# Altium footprint library RM6.PcbLib: 1 footprints
Each footprint in its own frame and in the unit in brackets; x right, y up, seen from the top. Pads: shape width x height; smd on the part's side, far side on the other; paste and mask are expansions set on the pad; w line width, h text height; cw(c..) or ccw(c..) is an arc to the next point about the centre after c.
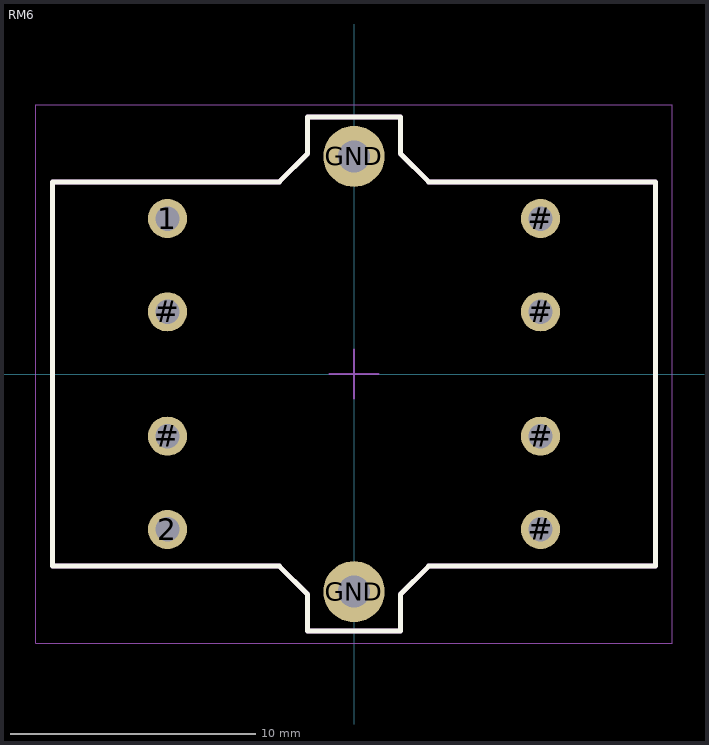
[diagram p0: the footprint, top view; thin cyan lines are the x and y axes]

## RM6 [mm] "Frame: B65808E1508T001, Core 2xRM6, 8pin"
height 12.5
pads (10):
  round 1.6 hole 1: 1(-7.62,6.35) 2(-7.62,-6.35) #(-7.62,-2.54) #(-7.62,2.54) #(7.62,-6.35) #(7.62,-2.54) #(7.62,2.54) #(7.62,6.35)
  round 2.5 hole 1.3: GND(0,-8.89) GND(0,8.89)
Top Overlay:
  lines w0.2: -12.32,-7.85 -3.05,-7.85 -1.9,-9 -1.9,-10.5 1.9,-10.5 1.9,-9 3.05,-7.85 12.32,-7.85 12.32,7.85 3.05,7.85 1.9,9 1.9,10.5 -1.9,10.5 -1.9,9 -3.05,7.85 -12.32,7.85 -12.32,-7.85
Comp Outl Top THT:
  lines w0.2: -12.32,-7.85 -3.05,-7.85 -1.9,-9 -1.9,-10.5 1.9,-10.5 1.9,-9 3.05,-7.85 12.32,-7.85 12.32,7.85 3.05,7.85 1.9,9 1.9,10.5 -1.9,10.5 -1.9,9 -3.05,7.85 -12.32,7.85 -12.32,-7.85
Desg Top THT:
  text ".Designator" at 0,2.5 h2
Value Top THT:
  text ".Comment" at -12.5,-2.5 h2
Courtyard Top:
  lines w0.05: -13,-11 13,-11 13,11 -13,11 -13,-11
  lines w0.1: -1,0 1,0 ; 0,-1 0,1
3D body "B65659F0001X023.step": height 12.55, standoff 3.75, extent -1.666,-1.666 1.666,1.666
3D body "B65808E1508T001.step": height 12.65, standoff -4.3, extent -12.32,-8.45 12.32,7.85
3D body "B65808B2203X000.step": height 12.1, standoff -3, extent -1.15,6.351 1.15,10.195
3D body "B65808B2203X000.step": height 12.1, standoff -3, extent -1.15,-10.195 1.15,-6.351
3D body "RM6_M33.step": height 12.5, standoff 6.25, extent -5.291,-8.95 5.291,8.95
3D body "RM6_M33.step": height 6.25, standoff 0, extent -5.291,-8.95 5.291,8.95